# EAGLE library part MAIN_CONNECTOR_10 (library Mechanical)
SMD Digikey Part Number: H10963-ND Manufacturer Part Number: A3-10DA-2SV(71) PTH Digikey Part Number: Manufacturer Part Number:
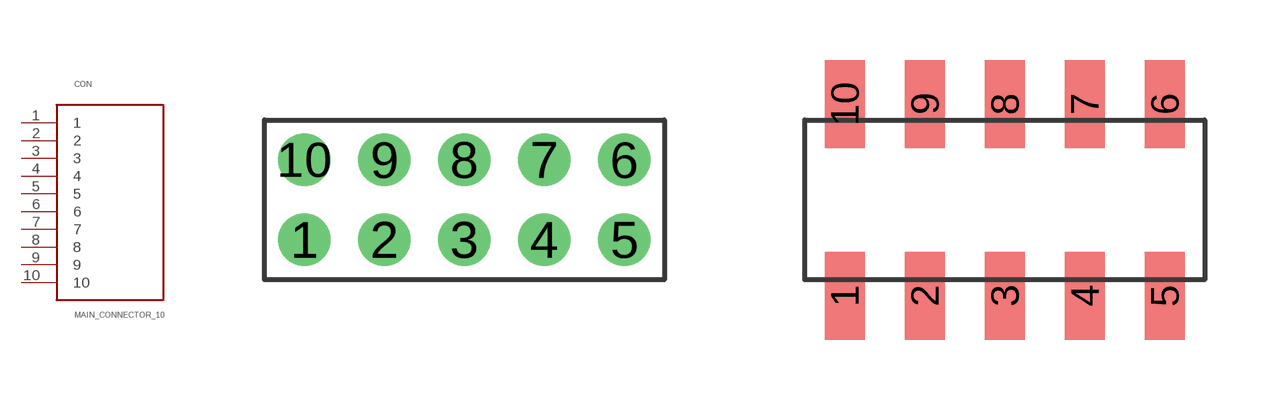
[diagram p4: symbol with the pads of FEMALE_HEADER_2MM_2X5; footprints FEMALE_HEADER_2MM_2X5, FEMALE_HEADER_2MM_2X5_SMD]

Designator prefix CON

## MAIN_CONNECTOR_10PTH  [FEMALE_HEADER_2MM_2X5]
1  1
2  2
3  3
4  4
5  5
6  6
7  7
8  8
9  9
10  10

## MAIN_CONNECTOR_10SMD  [FEMALE_HEADER_2MM_2X5_SMD]
Pads as for FEMALE_HEADER_2MM_2X5

## Footprint FEMALE_HEADER_2MM_2X5 (pad centres in mm)
drill 0.8: 1 -5,-1; 2 -3,-1; 3 -1,-1; 4 1,-1; 5 3,-1; 6 3,1; 7 1,1; 8 -1,1; 9 -3,1; 10 -5,1

## Footprint FEMALE_HEADER_2MM_2X5_SMD (pad centres in mm)
smd 1 x 2.2: 1 -7,-2.4; 2 -5,-2.4; 3 -3,-2.4; 4 -1,-2.4; 5 1,-2.4; 6 1,2.4; 7 -1,2.4; 8 -3,2.4; 9 -5,2.4; 10 -7,2.4